# Altium schematic symbol library std_cap_0805_longname.SchLib: 6 symbols
Pins are listed as number, name and electrical type; pins without a type are passive.

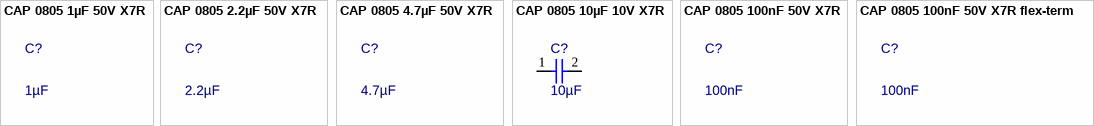
[diagram p0: symbols CAP 0805 1µF 50V X7R to CAP 0805 100nF 50V X7R flex-term]

## CAP 0805 1µF 50V X7R
designator C?, comment 1µF
CAP MLCC 1µF 50V X7R 0805 AEC-Q200; Manufacturer 1: KEMET; Manufacturer Part Number 1: C0805C105K5RACAUTO; Tolerance: ±10%; Tolerance Policy: don't care (class II); Value: 1µF; Capacitance: 1µF; Case/Package: 0805; Mounting Technology: SMT; Pins: 2; Voltage Rating: 50V; Temperature Coefficient: X7R; RoHS Compliant: Yes; Max Operating Temperature: 125°C; Min Operating Temperature: -55°C; Qualification: AEC-Q200
footprint CAPC0805(2012)145_L (Chip Capacitor, Body 1.6x0.8mm, Height 1.0mm, IPC High Density)

## CAP 0805 2.2µF 50V X7R
designator C?, comment 2.2µF
CAP MLCC 2.2µF 50V X7R 0805 AEC-Q200; Manufacturer 1: KEMET; Manufacturer Part Number 1: C0805C225K5RACAUTO; Tolerance: ±10%; Tolerance Policy: don't care (class II); Value: 2.2µF; Capacitance: 2.2µF; Case/Package: 0805; Mounting Technology: SMT; Pins: 2; Voltage Rating: 50V; Temperature Coefficient: X7R; RoHS Compliant: Yes; Max Operating Temperature: 125°C; Min Operating Temperature: -55°C; Qualification: AEC-Q200
footprint CAPC0805(2012)145_L (Chip Capacitor, Body 1.6x0.8mm, Height 1.0mm, IPC High Density)

## CAP 0805 4.7µF 50V X7R
designator C?, comment 4.7µF
CAP MLCC 4.7µF 50V X7R 0805 AEC-Q200; Manufacturer 1: TDK; Manufacturer Part Number 1: CGA4J1X7R1H475K125AE; Tolerance: ±10%; Tolerance Policy: don't care (class II); Value: 4.7µF; Capacitance: 4.7µF; Case/Package: 0805; Mounting Technology: SMT; Pins: 2; Voltage Rating: 50V; Temperature Coefficient: X7R; RoHS Compliant: Yes; Max Operating Temperature: 125°C; Min Operating Temperature: -55°C; Qualification: AEC-Q200
footprint CAPC0805(2012)145_L (Chip Capacitor, Body 1.6x0.8mm, Height 1.0mm, IPC High Density)

## CAP 0805 10µF 10V X7R
designator C?, comment 10µF
CAP MLCC 10µF 10V X7R 0805 AEC-Q200; Manufacturer 1: KEMET; Manufacturer Part Number 1: C0805C106K8RACAUTO; Tolerance: ±10%; Tolerance Policy: don't care (class II); Value: 10µF; Capacitance: 10µF; Case/Package: 0805; Mounting Technology: SMT; Pins: 2; Voltage Rating: 10V; Temperature Coefficient: X7R; RoHS Compliant: Yes; Max Operating Temperature: 125°C; Min Operating Temperature: -55°C; Qualification: AEC-Q200
footprint CAPC0805(2012)145_L (Chip Capacitor, Body 1.6x0.8mm, Height 1.0mm, IPC High Density)
pins: 1, 2

## CAP 0805 100nF 50V X7R
designator C?, comment 100nF
CAP MLCC 100nF 50V X7R 0805 AEC-Q200; Manufacturer 1: KEMET; Manufacturer Part Number 1: C0805C104K5RACAUTO; Tolerance: ±10%; Tolerance Policy: don't care (class II); Value: 100nF; Capacitance: 100nF; Case/Package: 0805; Mounting Technology: SMT; Pins: 2; Voltage Rating: 50V; Temperature Coefficient: X7R; RoHS Compliant: Yes; Max Operating Temperature: 125°C; Min Operating Temperature: -55°C; Qualification: AEC-Q200
footprint CAPC0805(2012)145_L (Chip Capacitor, Body 1.6x0.8mm, Height 1.0mm, IPC High Density)

## CAP 0805 100nF 50V X7R flex-term
designator C?, comment 100nF
CAP MLCC 100nF 50V X7R 0805; Manufacturer 1: KEMET; Manufacturer Part Number 1: C0805X104J5RACTU; Tolerance: ±5%; Tolerance Policy: don't care (class II); Library Note: Flexible termination - use where board flex / cracking matters.; Value: 100nF; Capacitance: 100nF; Case/Package: 0805; Mounting Technology: SMT; Pins: 2; Voltage Rating: 50V; Temperature Coefficient: X7R; RoHS Compliant: Yes; Max Operating Temperature: 125°C; Min Operating Temperature: -55°C
footprint CAPC0805(2012)145_L (Chip Capacitor, Body 1.6x0.8mm, Height 1.0mm, IPC High Density)